# EAGLE library part AP3512E (library DiodesInc)
IC REG BUCK ADJ 2A SYNC
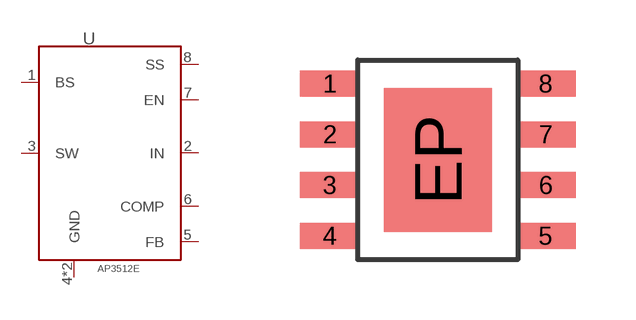
[diagram p1: symbol with the pads of SO-8(3.9MMEP); footprint SO-8(3.9MMEP)]

Designator prefix U

## AP3512E (DIGIKEY: AP3512EMPTR-G1DICT-ND; MFR: Diodes Incorporated; MPN: AP3512EMPTR-G1; P1I: o)  [SO-8(3.9MMEP)]
1  BS
2  IN
3  SW
4  GND
5  FB
6  COMP
7  EN
8  SS
EP  GND

## Footprint SO-8(3.9MMEP) (pad centres in mm)
smd 1.5 x 0.65: 1 -2.7,1.905; 2 -2.7,0.635; 3 -2.7,-0.635; 4 -2.7,-1.905; 5 2.7,-1.905; 6 2.7,-0.635; 7 2.7,0.635; 8 2.7,1.905
smd 2.7 x 3.6: EP 0,0